# Altium footprint library ThermalCamV1.PcbLib: 7 footprints
Each footprint in its own frame and in the unit in brackets; x right, y up, seen from the top. Pads: shape width x height; smd on the part's side, far side on the other; paste and mask are expansions set on the pad; w line width, h text height; cw(c..) or ccw(c..) is an arc to the next point about the centre after c.
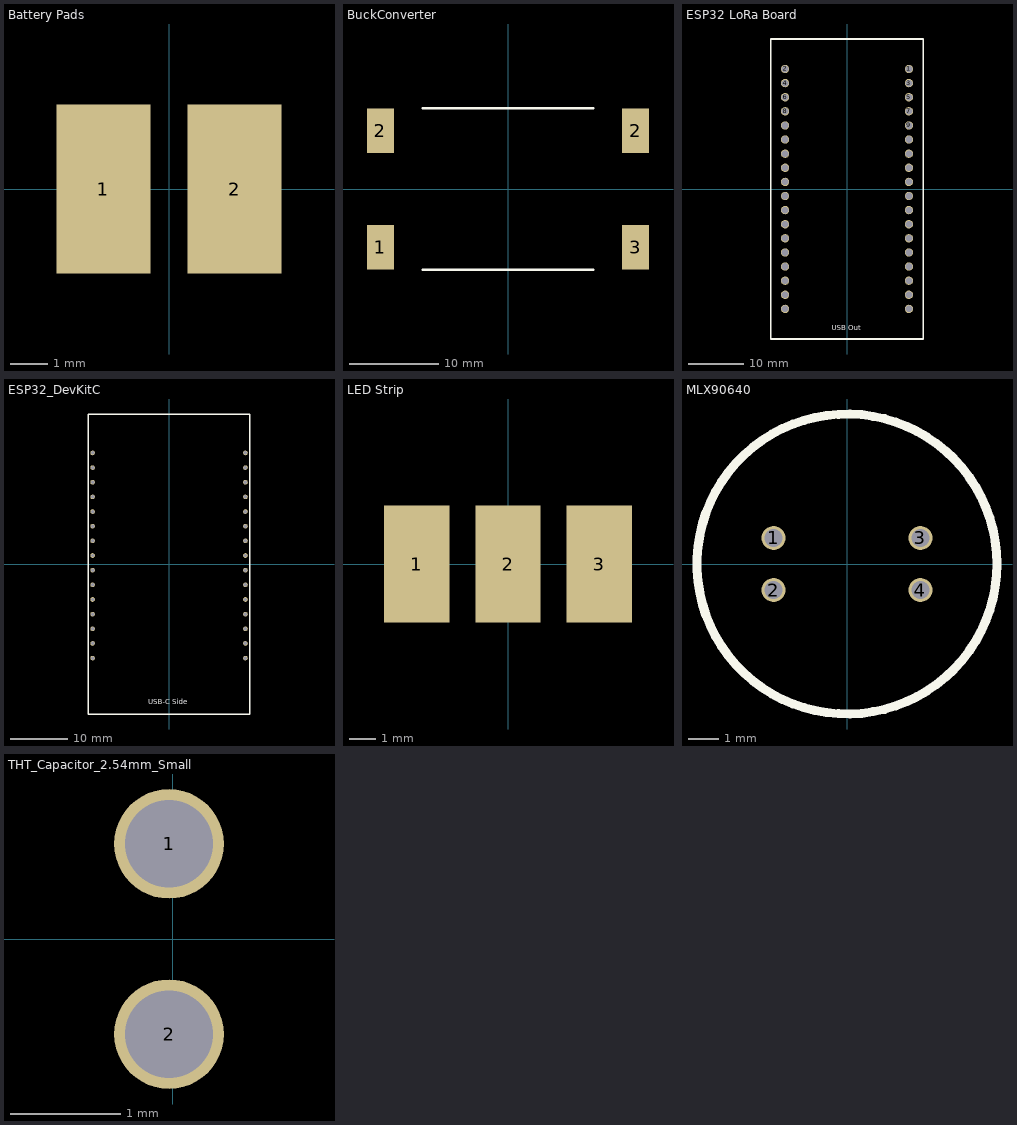
[diagram p0: the footprints below, top view; thin cyan lines are the x and y axes]

## Battery Pads [mm]
pads (2):
  rect 2.5x4.5 smd: 1(-1.75,0) 2(1.75,0)

## BuckConverter [mm]
pads (4):
  rect 3x5 smd: 1(-14.25,-6.5) 2(-14.25,6.5) 2(14.25,6.5) 3(14.25,-6.5)
Top Overlay:
  lines w0.3: -9.5,-9 9.5,-9 ; -9.5,9 9.5,9

## ESP32 LoRa Board [mm]
pads (36):
  round 1.5 hole 1.2: 1(11.15,21.6) 2(-11.15,21.6) 3(11.15,19.06) 4(-11.15,19.06) 5(11.15,16.52) 6(-11.15,16.52) 7(11.15,13.98) 8(-11.15,13.98) 9(11.15,11.44) 10(-11.15,11.44) 11(11.15,8.9) 12(-11.15,8.9) 13(11.15,6.36) 14(-11.15,6.36) 15(11.15,3.82) 16(-11.15,3.82) 17(11.15,1.28) 18(-11.15,1.28) 19(11.15,-1.26) 20(-11.15,-1.26) 21(11.15,-3.8) 22(-11.15,-3.8) 23(11.15,-6.34) 24(-11.15,-6.34) 25(11.15,-8.88) 26(-11.15,-8.88) 27(11.15,-11.42) 28(-11.15,-11.42) 29(11.15,-13.96) 30(-11.15,-13.96) 31(11.15,-16.5) 32(-11.15,-16.5) 33(11.15,-19.04) 34(-11.15,-19.04) 35(11.15,-21.58) 36(-11.15,-21.58)
Top Overlay:
  lines w0.3: -13.75,-27 13.75,-27 13.75,27 -13.75,27 -13.75,-27
  text "USB Out" at -2.719,-25.765 h1.52

## ESP32_DevKitC [mm]
pads (30):
  round 0.8 hole 0.6: 1(-13.25,19.25) 2(13.25,19.25) 3(-13.25,16.71) 4(13.25,16.71) 5(-13.25,14.17) 6(13.25,14.17) 7(-13.25,11.63) 8(13.25,11.63) 9(-13.25,9.09) 10(13.25,9.09) 11(-13.25,6.55) 12(13.25,6.55) 13(-13.25,4.01) 14(13.25,4.01) 15(-13.25,1.47) 16(13.25,1.47) 17(-13.25,-1.07) 18(13.25,-1.07) 19(-13.25,-3.61) 20(13.25,-3.61) 21(-13.25,-6.15) 22(13.25,-6.15) 23(-13.25,-8.69) 24(13.25,-8.69) 25(-13.25,-11.23) 26(13.25,-11.23) 27(-13.25,-13.77) 28(13.25,-13.77) 29(-13.25,-16.31) 30(13.25,-16.31)
Top Overlay:
  lines w0.254: -14,-26 14,-26 14,26 -14,26 -14,-26
  text "USB-C Side" at -3.625,-24.622 h1.52

## LED Strip [mm]
pads (3):
  rect 2.5x4.5 smd: 1(-3.5,0) 2(0,0) 3(3.5,0)

## MLX90640 [mm]
pads (4):
  round 0.8 hole 0.6: 1(-2.448,0.867) 2(-2.448,-0.867) 3(2.448,0.867) 4(2.448,-0.867)
Top Overlay:
  circle w0.3: c0,0 r5

## THT_Capacitor_2.54mm_Small [mm]
pads (2):
  round 1 hole 0.8: 1(-0.035,0.867) 2(-0.035,-0.867)